# Altium footprint library STC5410.PcbLib: 1 footprints
Each footprint in its own frame and in the unit in brackets; x right, y up, seen from the top. Pads: shape width x height; smd on the part's side, far side on the other; paste and mask are expansions set on the pad; w line width, h text height; cw(c..) or ccw(c..) is an arc to the next point about the centre after c.
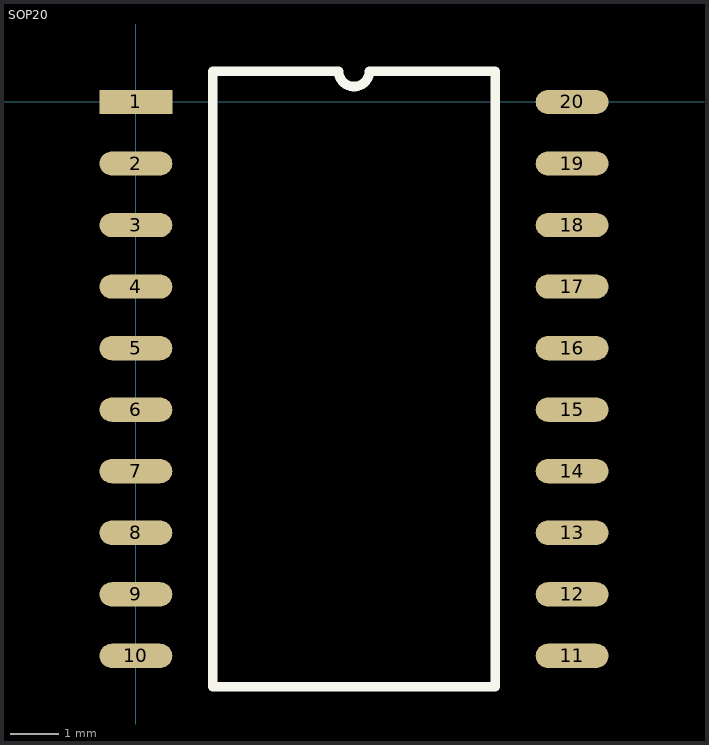
[diagram p0: the footprint, top view; thin cyan lines are the x and y axes]

## SOP20 [mm]
pads (20):
  rect 1.5x0.5 smd: 1(0,0)
  oval 1.5x0.5 smd: 2(0,-1.27) 3(0,-2.54) 4(0,-3.81) 5(0,-5.08) 6(0,-6.35) 7(0,-7.62) 8(0,-8.89) 9(0,-10.16) 10(0,-11.43) 11(9,-11.43) 12(9,-10.16) 13(9,-8.89) 14(9,-7.62) 15(9,-6.35) 16(9,-5.08) 17(9,-3.81) 18(9,-2.54) 19(9,-1.27) 20(9,0)
Top Overlay:
  lines w0.2: 1.585,-12.065 7.415,-12.065 7.415,0.635 4.817,0.635 cw(c4.5,0.635) 4.182,0.635 1.585,0.635 1.585,-12.065